# EAGLE library part CARDSTAC_FULL_STD_ROWS_AB (library Robot)
Rows A and B of the Cardstac specification.
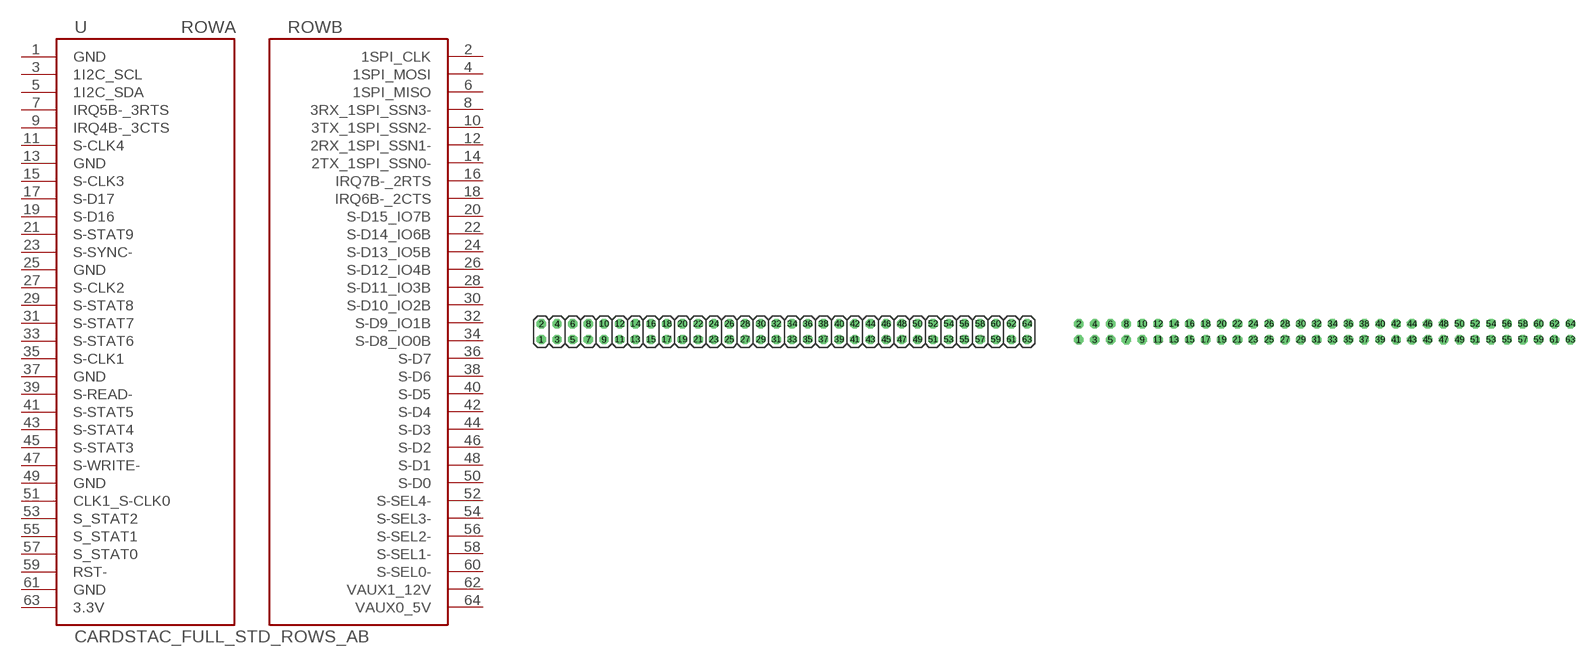
[diagram p0: symbol with the pads of 2X32; footprints 2X32, 2X32/NOSILK]

Designator prefix -

## CARDSTAC_FULL_STD_ROWS_AB_2X32  [2X32]
1  GND  pwr
2  1SPI_CLK
3  1I2C_SCL
4  1SPI_MOSI
5  1I2C_SDA
6  1SPI_MISO
7  IRQ5B-_3RTS
8  3RX_1SPI_SSN3-
9  IRQ4B-_3CTS
10  3TX_1SPI_SSN2-
11  S-CLK4
12  2RX_1SPI_SSN1-
13  GND  pwr
14  2TX_1SPI_SSN0-
15  S-CLK3
16  IRQ7B-_2RTS
17  S-D17
18  IRQ6B-_2CTS
19  S-D16
20  S-D15_IO7B
21  S-STAT9
22  S-D14_IO6B
23  S-SYNC-
24  S-D13_IO5B
25  GND  pwr
26  S-D12_IO4B
27  S-CLK2
28  S-D11_IO3B
29  S-STAT8
30  S-D10_IO2B
31  S-STAT7
32  S-D9_IO1B
33  S-STAT6
34  S-D8_IO0B
35  S-CLK1
36  S-D7
37  GND  pwr
38  S-D6
39  S-READ-
40  S-D5
41  S-STAT5
42  S-D4
43  S-STAT4
44  S-D3
45  S-STAT3
46  S-D2
47  S-WRITE-
48  S-D1
49  GND  pwr
50  S-D0
51  CLK1_S-CLK0
52  S-SEL4-
53  S_STAT2
54  S-SEL3-
55  S_STAT1
56  S-SEL2-
57  S_STAT0
58  S-SEL1-
59  RST-
60  S-SEL0-
61  GND  pwr
62  VAUX1_12V  pwr
63  3.3V  pwr
64  VAUX0_5V  pwr

## CARDSTAC_FULL_STD_ROWS_AB_2X32_NOSILK  [2X32/NOSILK]
Pads as for 2X32

## Footprint 2X32 (pad centres in mm)
PIN HEADER (2X32, 0.1" spaced, 8mil silkscreen)
drill 1.016 octagon: 1 -39.37,-1.27; 2 -39.37,1.27; 3 -36.83,-1.27; 4 -36.83,1.27; 5 -34.29,-1.27; 6 -34.29,1.27; 7 -31.75,-1.27; 8 -31.75,1.27; 9 -29.21,-1.27; 10 -29.21,1.27; 11 -26.67,-1.27; 12 -26.67,1.27; 13 -24.13,-1.27; 14 -24.13,1.27; 15 -21.59,-1.27; 16 -21.59,1.27; 17 -19.05,-1.27; 18 -19.05,1.27; 19 -16.51,-1.27; 20 -16.51,1.27; 21 -13.97,-1.27; 22 -13.97,1.27; 23 -11.43,-1.27; 24 -11.43,1.27; 25 -8.89,-1.27; 26 -8.89,1.27; 27 -6.35,-1.27; 28 -6.35,1.27; 29 -3.81,-1.27; 30 -3.81,1.27; 31 -1.27,-1.27; 32 -1.27,1.27; 33 1.27,-1.27; 34 1.27,1.27; 35 3.81,-1.27; 36 3.81,1.27; 37 6.35,-1.27; 38 6.35,1.27; 39 8.89,-1.27; 40 8.89,1.27; 41 11.43,-1.27; 42 11.43,1.27; 43 13.97,-1.27; 44 13.97,1.27; 45 16.51,-1.27; 46 16.51,1.27; 47 19.05,-1.27; 48 19.05,1.27; 49 21.59,-1.27; 50 21.59,1.27; 51 24.13,-1.27; 52 24.13,1.27; 53 26.67,-1.27; 54 26.67,1.27; 55 29.21,-1.27; 56 29.21,1.27; 57 31.75,-1.27; 58 31.75,1.27; 59 34.29,-1.27; 60 34.29,1.27; 61 36.83,-1.27; 62 36.83,1.27; 63 39.37,-1.27; 64 39.37,1.27

## Footprint 2X32/NOSILK (pad centres in mm)
PIN HEADER (2X32, 0.1" spaced, no silkscreen)
drill 1.016 octagon: 1 -39.37,-1.27; 2 -39.37,1.27; 3 -36.83,-1.27; 4 -36.83,1.27; 5 -34.29,-1.27; 6 -34.29,1.27; 7 -31.75,-1.27; 8 -31.75,1.27; 9 -29.21,-1.27; 10 -29.21,1.27; 11 -26.67,-1.27; 12 -26.67,1.27; 13 -24.13,-1.27; 14 -24.13,1.27; 15 -21.59,-1.27; 16 -21.59,1.27; 17 -19.05,-1.27; 18 -19.05,1.27; 19 -16.51,-1.27; 20 -16.51,1.27; 21 -13.97,-1.27; 22 -13.97,1.27; 23 -11.43,-1.27; 24 -11.43,1.27; 25 -8.89,-1.27; 26 -8.89,1.27; 27 -6.35,-1.27; 28 -6.35,1.27; 29 -3.81,-1.27; 30 -3.81,1.27; 31 -1.27,-1.27; 32 -1.27,1.27; 33 1.27,-1.27; 34 1.27,1.27; 35 3.81,-1.27; 36 3.81,1.27; 37 6.35,-1.27; 38 6.35,1.27; 39 8.89,-1.27; 40 8.89,1.27; 41 11.43,-1.27; 42 11.43,1.27; 43 13.97,-1.27; 44 13.97,1.27; 45 16.51,-1.27; 46 16.51,1.27; 47 19.05,-1.27; 48 19.05,1.27; 49 21.59,-1.27; 50 21.59,1.27; 51 24.13,-1.27; 52 24.13,1.27; 53 26.67,-1.27; 54 26.67,1.27; 55 29.21,-1.27; 56 29.21,1.27; 57 31.75,-1.27; 58 31.75,1.27; 59 34.29,-1.27; 60 34.29,1.27; 61 36.83,-1.27; 62 36.83,1.27; 63 39.37,-1.27; 64 39.37,1.27